# Altium schematic symbol library kmilo17pet-TI_LDO_0_350.SchLib: 1649 symbols (part 12 of 66)
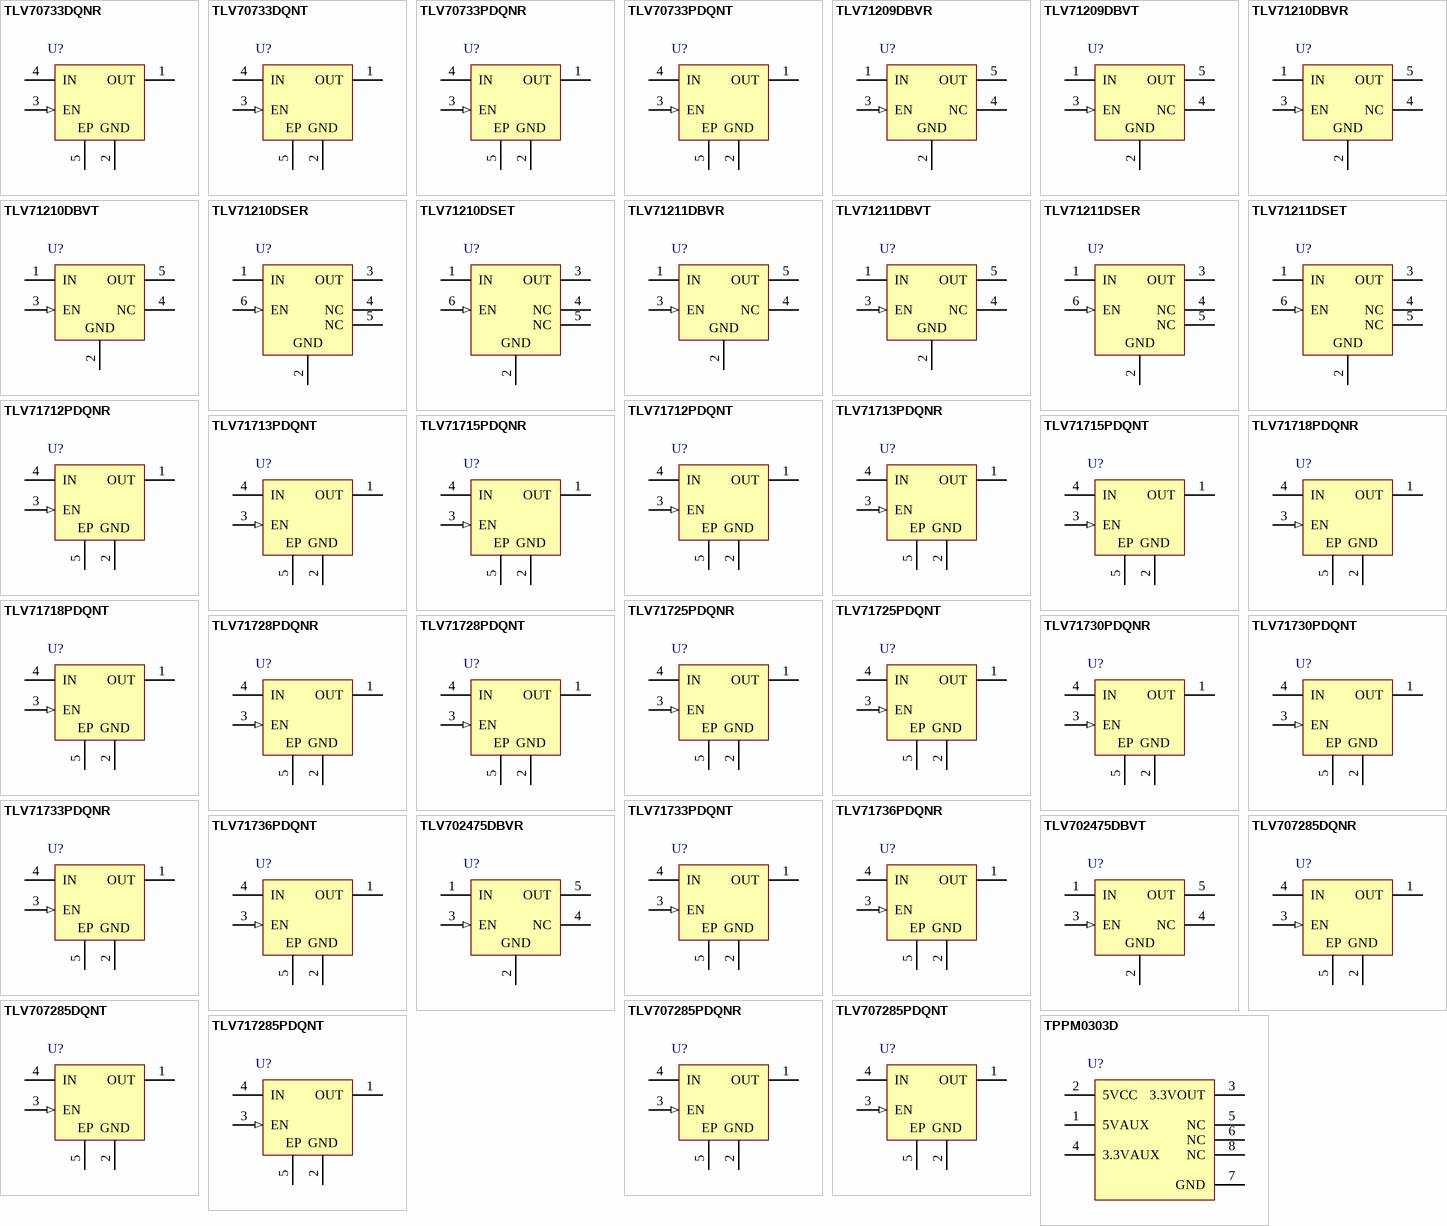
[diagram p53: symbols TLV70733DQNR to TPPM0303D]

## TLV71736PDQNR
designator U?
Single Output Low Noise LDO, 150 mA, Fixed 3.6 V Output, 1.7 to 5.5 V Input, 4-pin X2SON (DQN), -40 to 85 degC, Green (RoHS & no Sb/Br); Manufacturer: Texas Instruments; PartNumber: TLV71736PDQNR; Accuracy(%): 1.5; Fixed Output Options(V): 3.6; Iout(Max)(A): 0.15; Iq(Typ)(mA): 0.03; SubFamily: Single Channel LDO; Vdo(Typ)(mV): 360; Vin(Max)(V): 5.5; Vin(Min)(V): 1.7; DatasheetVersion: SBVS176A; PackageVersion: 4210367/D; PackageReference: DQN4-480X480TP; PackageDescription: 4-Pin Plastic Small Outline, Body 1 x 1 mm, Pitch 0.65 mm; Supplier 1: Digi-Key; Supplier Part Number 1: 296-30491-2-ND; Supplier 2: Digi-Key; Supplier Part Number 2: 296-30491-1-ND; Supplier 3: Digi-Key; Supplier Part Number 3: 296-30491-6-ND; Supplier 4: Newark; Supplier Part Number 4: 06W3546; Supplier 5: Mouser; Supplier Part Number 5: 595-TLV71736PDQNR; Eco-Plan: Green (RoHS & no Sb/Br); Vout Adj(Max)(V): 3.6; Vout Adj(Min)(V): 3.6; Mounting Technology: Surface Mount; ComponentLink1Description: Manufacturer URL; ComponentLink1URL: http://www.ti.com/; ComponentLink2Description: Datasheet; ComponentLink2URL: http://www.ti.com/general/docs/lit/getliterature.tsp?genericPartNumber=TLV71736P&fileType=pdf
footprint TI-DQN4-480X480TP_V (SON, 4-Leads, Body 1x1mm, Pitch 0.65mm, Thermal Pad 0.5x0.5mm)
pins: 1 OUT (power) "Regulated output voltage pin. A small 1-uF ceramic capacitor is recommended from this pin to ground to assure stability.", 2 GND (power) "Ground pin", 3 EN (in) "Enable pin. Driving EN over 1.2 V turns on the regulator. Driving EN below 0.4 V puts the regulator into shutdown mode.", 4 IN (power) "Input pin. A small capacitor is recommended from this pin to ground to assure stability.", 5 EP (power) "It is recommended to connect this pin to GND for improved thermal performance."

## TLV71736PDQNT
designator U?
Single Output Low Noise LDO, 150 mA, Fixed 3.6 V Output, 1.7 to 5.5 V Input, 4-pin X2SON (DQN), -40 to 85 degC, Green (RoHS & no Sb/Br); Manufacturer: Texas Instruments; PartNumber: TLV71736PDQNT; Accuracy(%): 1.5; Fixed Output Options(V): 3.6; Iout(Max)(A): 0.15; Iq(Typ)(mA): 0.03; SubFamily: Single Channel LDO; Vdo(Typ)(mV): 360; Vin(Max)(V): 5.5; Vin(Min)(V): 1.7; DatasheetVersion: SBVS176A; PackageVersion: 4210367/D; PackageReference: DQN4-480X480TP; PackageDescription: 4-Pin Plastic Small Outline, Body 1 x 1 mm, Pitch 0.65 mm; Supplier 1: Digi-Key; Supplier Part Number 1: TLV71736PDQNT-ND; Supplier 2: Farnell; Supplier Part Number 2: 2211359; Supplier 3: Newark; Supplier Part Number 3: 06W3547; Supplier 4: Newark; Supplier Part Number 4: 44W8609; Supplier 5: Mouser; Supplier Part Number 5: 595-TLV71736PDQNT; Eco-Plan: Green (RoHS & no Sb/Br); Vout Adj(Max)(V): 3.6; Vout Adj(Min)(V): 3.6; Mounting Technology: Surface Mount; ComponentLink1Description: Manufacturer URL; ComponentLink1URL: http://www.ti.com/; ComponentLink2Description: Datasheet; ComponentLink2URL: http://www.ti.com/general/docs/lit/getliterature.tsp?genericPartNumber=TLV71736P&fileType=pdf
footprint TI-DQN4-480X480TP_V (SON, 4-Leads, Body 1x1mm, Pitch 0.65mm, Thermal Pad 0.5x0.5mm)
pins: 1 OUT (power) "Regulated output voltage pin. A small 1-uF ceramic capacitor is recommended from this pin to ground to assure stability.", 2 GND (power) "Ground pin", 3 EN (in) "Enable pin. Driving EN over 1.2 V turns on the regulator. Driving EN below 0.4 V puts the regulator into shutdown mode.", 4 IN (power) "Input pin. A small capacitor is recommended from this pin to ground to assure stability.", 5 EP (power) "It is recommended to connect this pin to GND for improved thermal performance."

## TLV702475DBVR
designator U?
Single Output LDO, 300 mA, Fixed 4.75 V Output, 2 to 5.5 V Input, with Low IQ, 5-pin SOT-23 (DBV), -40 to 125 degC, Green (RoHS & no Sb/Br); Manufacturer: Texas Instruments; PartNumber: TLV702475DBVR; Accuracy(%): 2; Fixed Output Options(V): 4.75; Iout(Max)(A): 0.3; Iq(Typ)(mA): 0.03; SubFamily: Single Channel LDO; Vdo(Typ)(mV): 220; Vin(Max)(V): 5.5; DatasheetVersion: SLVSAG6B; PackageVersion: 4073253-4/K; PackageReference: DBV5; PackageDescription: 5-Pin Plastic Small Outline, Body 1.60 Ã— 2.90 mm, Pitch 0.95 mm; Supplier 1: Digi-Key; Supplier Part Number 1: TLV702475DBVR-ND; Supplier 2: Mouser; Supplier Part Number 2: 595-TLV702475DBVR; Eco-Plan: Green (RoHS & no Sb/Br); Vin(Min)(V): 2; Vout Adj(Max)(V): 4.75; Vout Adj(Min)(V): 4.75; Mounting Technology: Surface Mount; Code_JEDEC: MO-178; ComponentLink1Description: Manufacturer URL; ComponentLink1URL: http://www.ti.com/; ComponentLink2Description: Datasheet; ComponentLink2URL: http://www.ti.com/general/docs/lit/getliterature.tsp?genericPartNumber=TLV702475&fileType=pdf; ComponentLink3Description: Package Specification; ComponentLink3URL: http://www.ti.com/litv/pdf/mpds018i
footprint TI-DBV5_N (SOT23, 5-Leads, Body 2.9x1.6mm, Pitch 0.95mm, IPC Medium Density)
footprint TI-DBV5_L (SOT23, 5-Leads, Body 2.9x1.6mm, Pitch 0.95mm, IPC High Density)
footprint TI-DBV5_M (SOT23, 5-Leads, Body 2.9x1.6mm, Pitch 0.95mm, IPC Low Density)
pins: 1 IN (power) "Input supply voltage", 2 GND (power) "Ground", 3 EN (in) "Enable input", 4 NC "No connected", 5 OUT (power) "Regulated output voltage"

## TLV702475DBVT
designator U?
Single Output LDO, 300 mA, Fixed 4.75 V Output, 2 to 5.5 V Input, with Low IQ, 5-pin SOT-23 (DBV), -40 to 125 degC, Green (RoHS & no Sb/Br); Manufacturer: Texas Instruments; PartNumber: TLV702475DBVT; Accuracy(%): 2; Fixed Output Options(V): 4.75; Iout(Max)(A): 0.3; Iq(Typ)(mA): 0.03; SubFamily: Single Channel LDO; Vdo(Typ)(mV): 220; Vin(Max)(V): 5.5; DatasheetVersion: SLVSAG6B; PackageVersion: 4073253-4/K; PackageReference: DBV5; PackageDescription: 5-Pin Plastic Small Outline, Body 1.60 Ã— 2.90 mm, Pitch 0.95 mm; Supplier 1: Digi-Key; Supplier Part Number 1: 296-28110-2-ND; Supplier 2: Digi-Key; Supplier Part Number 2: 296-28110-1-ND; Supplier 3: Digi-Key; Supplier Part Number 3: 296-28110-6-ND; Supplier 4: Newark; Supplier Part Number 4: 24T4771; Supplier 5: Mouser; Supplier Part Number 5: 595-TLV702475DBVT; Eco-Plan: Green (RoHS & no Sb/Br); Vin(Min)(V): 2; Vout Adj(Max)(V): 4.75; Vout Adj(Min)(V): 4.75; Mounting Technology: Surface Mount; Code_JEDEC: MO-178; ComponentLink1Description: Manufacturer URL; ComponentLink1URL: http://www.ti.com/; ComponentLink2Description: Datasheet; ComponentLink2URL: http://www.ti.com/general/docs/lit/getliterature.tsp?genericPartNumber=TLV702475&fileType=pdf; ComponentLink3Description: Package Specification; ComponentLink3URL: http://www.ti.com/litv/pdf/mpds018i
footprint TI-DBV5_N (SOT23, 5-Leads, Body 2.9x1.6mm, Pitch 0.95mm, IPC Medium Density)
footprint TI-DBV5_L (SOT23, 5-Leads, Body 2.9x1.6mm, Pitch 0.95mm, IPC High Density)
footprint TI-DBV5_M (SOT23, 5-Leads, Body 2.9x1.6mm, Pitch 0.95mm, IPC Low Density)
pins: 1 IN (power) "Input supply voltage", 2 GND (power) "Ground", 3 EN (in) "Enable input", 4 NC "No connected", 5 OUT (power) "Regulated output voltage"

## TLV707285DQNR
designator U?
Single Output Low Noise LDO, 200 mA, Fixed 2.85 V Output, 2 to 5.5 V Input, 4-pin X2SON(DQN), -40 to 85 degC, Green (RoHS & no Sb/Br); Manufacturer: Texas Instruments; PartNumber: TLV707285DQNR; Accuracy(%): 1.5; Fixed Output Options(V): 2.85; Iout(Max)(A): 0.2; Iq(Typ)(mA): 0.02; SubFamily: Single Channel LDO; Vdo(Typ)(mV): 250; Vin(Max)(V): 5.5; Vin(Min)(V): 2; DatasheetVersion: SBVS153C; PackageVersion: 4210367/D; PackageReference: DQN4-480X480TP; PackageDescription: 4-Pin Plastic Small Outline, Body 1 x 1 mm, Pitch 0.65 mm; Supplier 1: Digi-Key; Supplier Part Number 1: TLV707285DQNR-ND; Supplier 2: Mouser; Supplier Part Number 2: 595-TLV707285DQNR; Eco-Plan: Green (RoHS & no Sb/Br); Vout Adj(Max)(V): 2.85; Vout Adj(Min)(V): 2.85; Mounting Technology: Surface Mount; ComponentLink1Description: Manufacturer URL; ComponentLink1URL: http://www.ti.com/; ComponentLink2Description: Datasheet; ComponentLink2URL: http://www.ti.com/general/docs/lit/getliterature.tsp?genericPartNumber=TLV707285&fileType=pdf
footprint TI-DQN4-480X480TP_V (SON, 4-Leads, Body 1x1mm, Pitch 0.65mm, Thermal Pad 0.5x0.5mm)
pins: 1 OUT (power) "Regulated output voltage pin. A small 1 uF ceramic capacitor is needed from this pin to ground to assure stability.", 2 GND (power) "Ground pin", 3 EN (in) "Enable pin. Driving EN over 0.9 V turns on the regulator. Driving EN below 0.4 V puts the regulator into shutdown mode For TLV707xxP, output voltage is discharged through an internal 120-ohm resistor when device is shut down.", 4 IN (power) "Input pin. A small 1uF ceramic capacitor is recommended from this pin to ground for good transient performance.", 5 EP "Exposed thermal pad"

## TLV707285DQNT
designator U?
Single Output Low Noise LDO, 200 mA, Fixed 2.85 V Output, 2 to 5.5 V Input, 4-pin X2SON(DQN), -40 to 85 degC, Green (RoHS & no Sb/Br); Manufacturer: Texas Instruments; PartNumber: TLV707285DQNT; Accuracy(%): 1.5; Fixed Output Options(V): 2.85; Iout(Max)(A): 0.2; Iq(Typ)(mA): 0.02; SubFamily: Single Channel LDO; Vdo(Typ)(mV): 250; Vin(Max)(V): 5.5; Vin(Min)(V): 2; DatasheetVersion: SBVS153C; PackageVersion: 4210367/D; PackageReference: DQN4-480X480TP; PackageDescription: 4-Pin Plastic Small Outline, Body 1 x 1 mm, Pitch 0.65 mm; Supplier 1: Digi-Key; Supplier Part Number 1: 296-28352-2-ND; Supplier 2: Digi-Key; Supplier Part Number 2: 296-28352-1-ND; Supplier 3: Digi-Key; Supplier Part Number 3: 296-28352-6-ND; Supplier 4: Mouser; Supplier Part Number 4: 595-TLV707285DQNT; Eco-Plan: Green (RoHS & no Sb/Br); Vout Adj(Max)(V): 2.85; Vout Adj(Min)(V): 2.85; Mounting Technology: Surface Mount; ComponentLink1Description: Manufacturer URL; ComponentLink1URL: http://www.ti.com/; ComponentLink2Description: Datasheet; ComponentLink2URL: http://www.ti.com/general/docs/lit/getliterature.tsp?genericPartNumber=TLV707285&fileType=pdf
footprint TI-DQN4-480X480TP_V (SON, 4-Leads, Body 1x1mm, Pitch 0.65mm, Thermal Pad 0.5x0.5mm)
pins: 1 OUT (power) "Regulated output voltage pin. A small 1 uF ceramic capacitor is needed from this pin to ground to assure stability.", 2 GND (power) "Ground pin", 3 EN (in) "Enable pin. Driving EN over 0.9 V turns on the regulator. Driving EN below 0.4 V puts the regulator into shutdown mode For TLV707xxP, output voltage is discharged through an internal 120-ohm resistor when device is shut down.", 4 IN (power) "Input pin. A small 1uF ceramic capacitor is recommended from this pin to ground for good transient performance.", 5 EP "Exposed thermal pad"

## TLV707285PDQNR
designator U?
Single Output Low Noise LDO, 200 mA, Fixed 2.85 V Output, 2 to 5.5 V Input, 4-pin X2SON(DQN), -40 to 85 degC, Green (RoHS & no Sb/Br); Manufacturer: Texas Instruments; PartNumber: TLV707285PDQNR; Accuracy(%): 1.5; Fixed Output Options(V): 2.85; Iout(Max)(A): 0.2; Iq(Typ)(mA): 0.02; SubFamily: Single Channel LDO; Vdo(Typ)(mV): 250; Vin(Max)(V): 5.5; Vin(Min)(V): 2; DatasheetVersion: SBVS153C; PackageVersion: 4210367/D; PackageReference: DQN4-480X480TP; PackageDescription: 4-Pin Plastic Small Outline, Body 1 x 1 mm, Pitch 0.65 mm; Supplier 1: Digi-Key; Supplier Part Number 1: 296-30290-2-ND; Supplier 2: Digi-Key; Supplier Part Number 2: 296-30290-1-ND; Supplier 3: Digi-Key; Supplier Part Number 3: 296-30290-6-ND; Supplier 4: Mouser; Supplier Part Number 4: 595-TLV707285PDQNR; Eco-Plan: Green (RoHS & no Sb/Br); Vout Adj(Max)(V): 2.85; Vout Adj(Min)(V): 2.85; Mounting Technology: Surface Mount; ComponentLink1Description: Manufacturer URL; ComponentLink1URL: http://www.ti.com/; ComponentLink2Description: Datasheet; ComponentLink2URL: http://www.ti.com/general/docs/lit/getliterature.tsp?genericPartNumber=TLV707285P&fileType=pdf
footprint TI-DQN4-480X480TP_V (SON, 4-Leads, Body 1x1mm, Pitch 0.65mm, Thermal Pad 0.5x0.5mm)
pins: 1 OUT (power) "Regulated output voltage pin. A small 1 uF ceramic capacitor is needed from this pin to ground to assure stability.", 2 GND (power) "Ground pin", 3 EN (in) "Enable pin. Driving EN over 0.9 V turns on the regulator. Driving EN below 0.4 V puts the regulator into shutdown mode For TLV707xxP, output voltage is discharged through an internal 120-ohm resistor when device is shut down.", 4 IN (power) "Input pin. A small 1uF ceramic capacitor is recommended from this pin to ground for good transient performance.", 5 EP "Exposed thermal pad"

## TLV707285PDQNT
designator U?
Single Output Low Noise LDO, 200 mA, Fixed 2.85 V Output, 2 to 5.5 V Input, 4-pin X2SON(DQN), -40 to 85 degC, Green (RoHS & no Sb/Br); Manufacturer: Texas Instruments; PartNumber: TLV707285PDQNT; Accuracy(%): 1.5; Fixed Output Options(V): 2.85; Iout(Max)(A): 0.2; Iq(Typ)(mA): 0.02; SubFamily: Single Channel LDO; Vdo(Typ)(mV): 250; Vin(Max)(V): 5.5; Vin(Min)(V): 2; DatasheetVersion: SBVS153C; PackageVersion: 4210367/D; PackageReference: DQN4-480X480TP; PackageDescription: 4-Pin Plastic Small Outline, Body 1 x 1 mm, Pitch 0.65 mm; Supplier 1: Digi-Key; Supplier Part Number 1: TLV707285PDQNT-ND; Supplier 2: Mouser; Supplier Part Number 2: 595-TLV707285PDQNT; Eco-Plan: Green (RoHS & no Sb/Br); Vout Adj(Max)(V): 2.85; Vout Adj(Min)(V): 2.85; Mounting Technology: Surface Mount; ComponentLink1Description: Manufacturer URL; ComponentLink1URL: http://www.ti.com/; ComponentLink2Description: Datasheet; ComponentLink2URL: http://www.ti.com/general/docs/lit/getliterature.tsp?genericPartNumber=TLV707285P&fileType=pdf
footprint TI-DQN4-480X480TP_V (SON, 4-Leads, Body 1x1mm, Pitch 0.65mm, Thermal Pad 0.5x0.5mm)
pins: 1 OUT (power) "Regulated output voltage pin. A small 1 uF ceramic capacitor is needed from this pin to ground to assure stability.", 2 GND (power) "Ground pin", 3 EN (in) "Enable pin. Driving EN over 0.9 V turns on the regulator. Driving EN below 0.4 V puts the regulator into shutdown mode For TLV707xxP, output voltage is discharged through an internal 120-ohm resistor when device is shut down.", 4 IN (power) "Input pin. A small 1uF ceramic capacitor is recommended from this pin to ground for good transient performance.", 5 EP "Exposed thermal pad"

## TLV717285PDQNT
designator U?
Single Output Low Noise LDO, 150 mA, Fixed 2.85 V Output, 1.7 to 5.5 V Input, 4-pin X2SON (DQN), -40 to 85 degC, Green (RoHS & no Sb/Br); Manufacturer: Texas Instruments; PartNumber: TLV717285PDQNT; Accuracy(%): 1.5; Fixed Output Options(V): 2.85; Iout(Max)(A): 0.15; Iq(Typ)(mA): 0.03; SubFamily: Single Channel LDO; Vdo(Typ)(mV): 360; Vin(Max)(V): 5.5; Vin(Min)(V): 1.7; DatasheetVersion: SBVS176A; PackageVersion: 4210367/D; PackageReference: DQN4-480X480TP; PackageDescription: 4-Pin Plastic Small Outline, Body 1 x 1 mm, Pitch 0.65 mm; Supplier 1: Digi-Key; Supplier Part Number 1: TLV717285PDQNT-ND; Supplier 2: Farnell; Supplier Part Number 2: 2211357; Supplier 3: Newark; Supplier Part Number 3: 06W3543; Supplier 4: Newark; Supplier Part Number 4: 44W8607; Supplier 5: Mouser; Supplier Part Number 5: 595-TLV717285PDQNT; Eco-Plan: Green (RoHS & no Sb/Br); Vout Adj(Max)(V): 2.85; Vout Adj(Min)(V): 2.85; Mounting Technology: Surface Mount; ComponentLink1Description: Manufacturer URL; ComponentLink1URL: http://www.ti.com/; ComponentLink2Description: Datasheet; ComponentLink2URL: http://www.ti.com/general/docs/lit/getliterature.tsp?genericPartNumber=TLV717285P&fileType=pdf
footprint TI-DQN4-480X480TP_V (SON, 4-Leads, Body 1x1mm, Pitch 0.65mm, Thermal Pad 0.5x0.5mm)
pins: 1 OUT (power) "Regulated output voltage pin. A small 1-uF ceramic capacitor is recommended from this pin to ground to assure stability.", 2 GND (power) "Ground pin", 3 EN (in) "Enable pin. Driving EN over 1.2 V turns on the regulator. Driving EN below 0.4 V puts the regulator into shutdown mode.", 4 IN (power) "Input pin. A small capacitor is recommended from this pin to ground to assure stability.", 5 EP (power) "It is recommended to connect this pin to GND for improved thermal performance."

## TPPM0303D
designator U?
Single Output LDO, 250 mA, Fixed 3.3 V Output, 4.5 to 5.5 V Input, with Reverse Current Blocking, 8-pin SOIC (D), 0 to 70 degC, Green (RoHS & no Sb/Br); Manufacturer: Texas Instruments; PartNumber: TPPM0303D; Fixed Output Options(V): 3.3; Iout(Max)(A): 0.25; Iq(Typ)(mA): 2.5; Rating: Catalog; SubFamily: Single Channel LDO; Vdo(Typ)(mV): 0.1; Vin(Max)(V): 5.5; Vin(Min)(V): 4.5; DatasheetVersion: SLVS364; PackageVersion: 4040047-3/M; PackageReference: D8; PackageDescription: 8-Pin Plastic Small Outline, Body 4.9 x 3.9 mm, Pitch 1.27 mm; Supplier 1: Digi-Key; Supplier Part Number 1: 296-34580-5-ND; Supplier 2: Mouser; Supplier Part Number 2: 595-TPPM0303D; Eco-Plan: Green (RoHS & no Sb/Br); Mounting Technology: Surface Mount; Code_JEDEC: MS-012; ComponentLink1Description: Manufacturer URL; ComponentLink1URL: http://www.ti.com/; ComponentLink2Description: Datasheet; ComponentLink2URL: http://www.ti.com/general/docs/lit/getliterature.tsp?genericPartNumber=TPPM0303&fileType=pdf; ComponentLink3Description: Package Specification; ComponentLink3URL: http://www.ti.com/litv/pdf/msoi002j
footprint TI-D8_N (SOIC, 8-Leads, Body 4.9x3.9mm, Pitch 1.27mm, IPC Medium Density)
footprint TI-D8_L (SOIC, 8-Leads, Body 4.9x3.9mm, Pitch 1.27mm, IPC High Density)
footprint TI-D8_M (SOIC, 8-Leads, Body 4.9x3.9mm, Pitch 1.27mm, IPC Low Density)
pins: 1 5VAUX (power) "5-V auxiliary input", 2 5VCC (power) "5-V main input", 3 3.3VOUT (power) "3-V output with a typical capacitance load of 4.7 uF", 4 3.3VAUX (power) "3.3-V auxiliary input", 5 NC "No internal connection", 6 NC "No internal connection", 7 GND (power) "Ground", 8 NC "No internal connection"

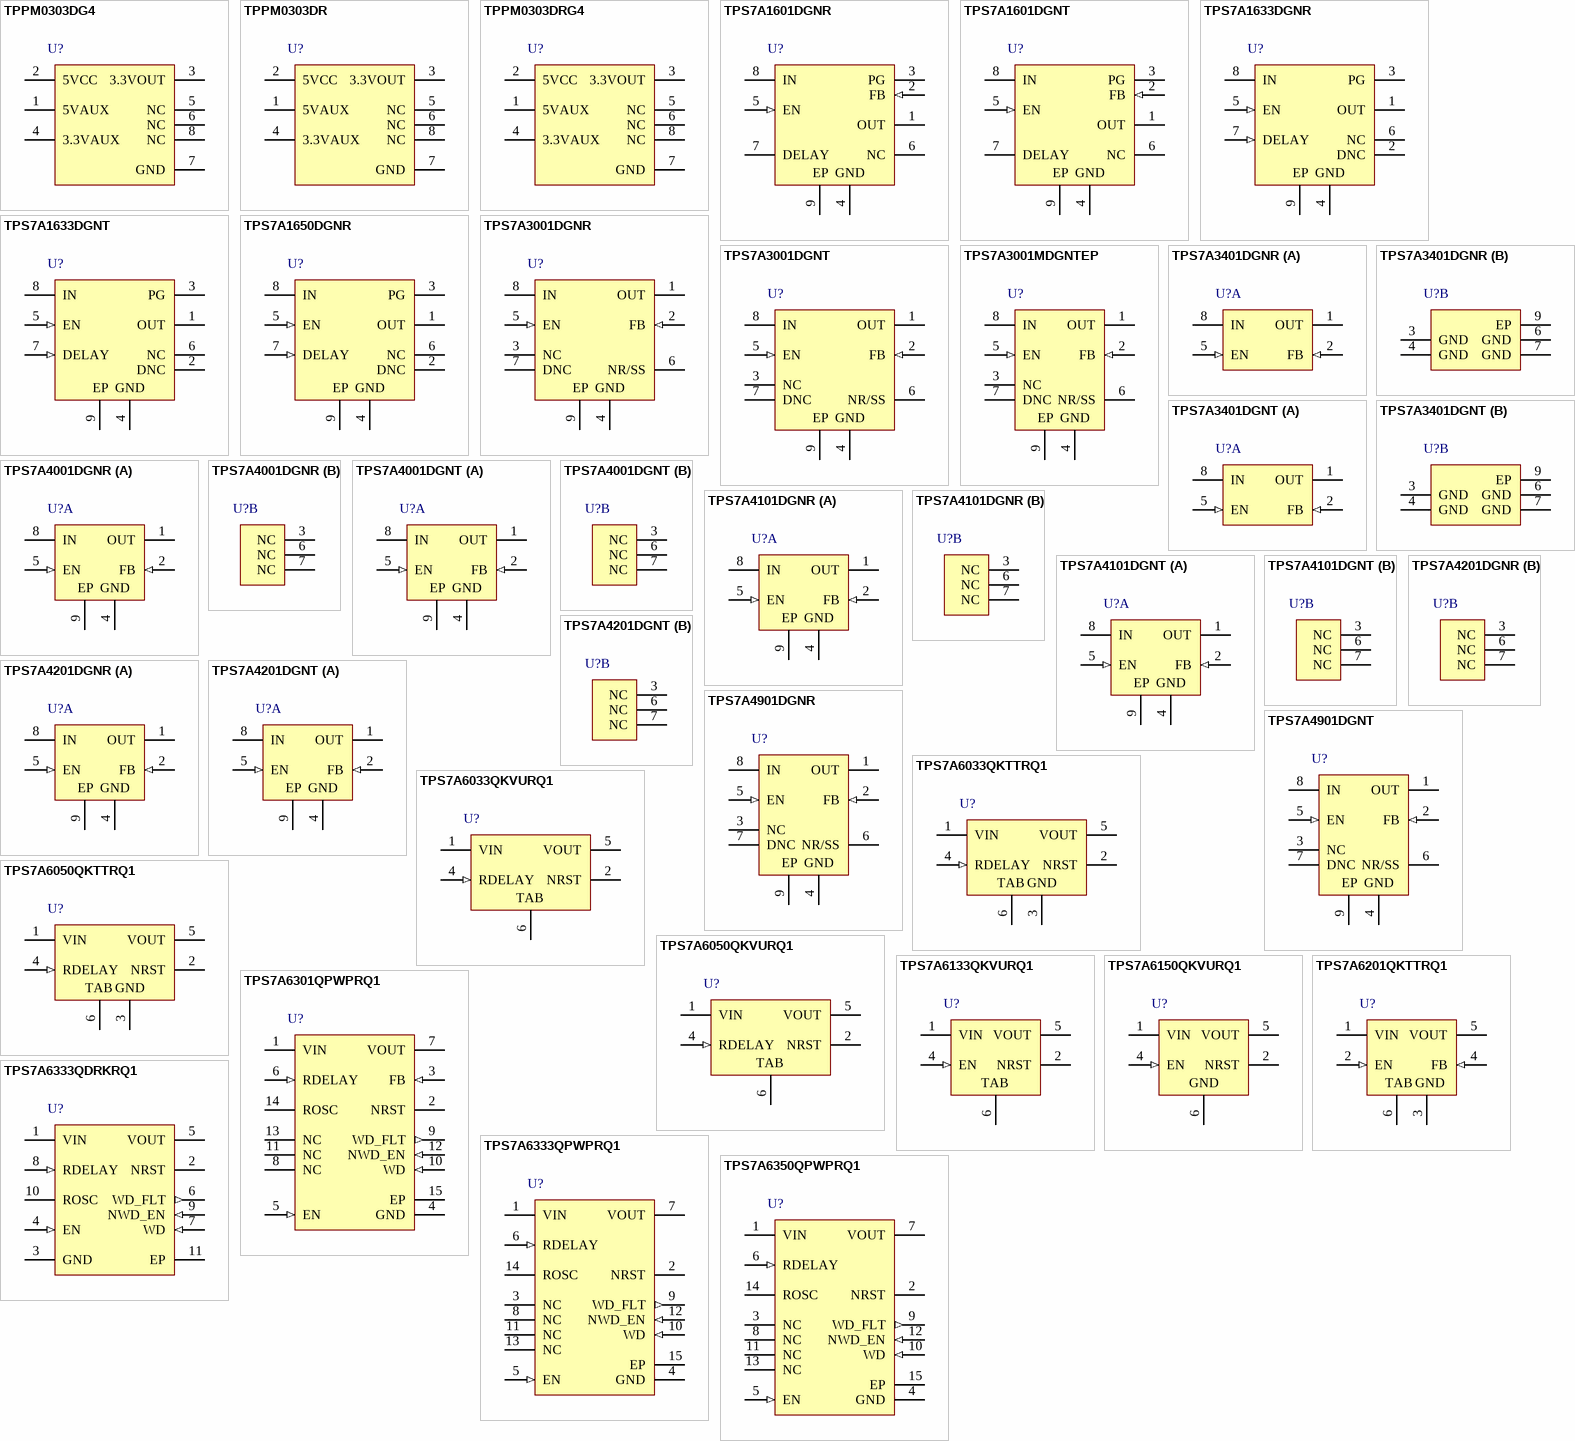
[diagram p8: symbols TPPM0303DG4 to TPS7A6350QPWPRQ1]

## TPPM0303DG4
designator U?
Single Output LDO, 250 mA, Fixed 3.3 V Output, 4.5 to 5.5 V Input, with Reverse Current Blocking, 8-pin SOIC (D), 0 to 70 degC, Green (RoHS & no Sb/Br); Manufacturer: Texas Instruments; PartNumber: TPPM0303DG4; Fixed Output Options(V): 3.3; Iout(Max)(A): 0.25; Iq(Typ)(mA): 2.5; Rating: Catalog; SubFamily: Single Channel LDO; Vdo(Typ)(mV): 0.1; Vin(Max)(V): 5.5; Vin(Min)(V): 4.5; DatasheetVersion: SLVS364; PackageVersion: 4040047-3/M; PackageReference: D8; PackageDescription: 8-Pin Plastic Small Outline, Body 4.9 x 3.9 mm, Pitch 1.27 mm; Supplier 1: Digi-Key; Supplier Part Number 1: TPPM0303DG4-ND; Supplier 2: Mouser; Supplier Part Number 2: 595-TPPM0303DG4; Eco-Plan: Green (RoHS & no Sb/Br); Mounting Technology: Surface Mount; Code_JEDEC: MS-012; ComponentLink1Description: Manufacturer URL; ComponentLink1URL: http://www.ti.com/; ComponentLink2Description: Datasheet; ComponentLink2URL: http://www.ti.com/general/docs/lit/getliterature.tsp?genericPartNumber=TPPM0303&fileType=pdf; ComponentLink3Description: Package Specification; ComponentLink3URL: http://www.ti.com/litv/pdf/msoi002j
footprint TI-D8_N (SOIC, 8-Leads, Body 4.9x3.9mm, Pitch 1.27mm, IPC Medium Density)
footprint TI-D8_L (SOIC, 8-Leads, Body 4.9x3.9mm, Pitch 1.27mm, IPC High Density)
footprint TI-D8_M (SOIC, 8-Leads, Body 4.9x3.9mm, Pitch 1.27mm, IPC Low Density)
pins: 1 5VAUX (power) "5-V auxiliary input", 2 5VCC (power) "5-V main input", 3 3.3VOUT (power) "3-V output with a typical capacitance load of 4.7 uF", 4 3.3VAUX (power) "3.3-V auxiliary input", 5 NC "No internal connection", 6 NC "No internal connection", 7 GND (power) "Ground", 8 NC "No internal connection"

## TPPM0303DR
designator U?
Single Output LDO, 250 mA, Fixed 3.3 V Output, 4.5 to 5.5 V Input, with Reverse Current Blocking, 8-pin SOIC (D), 0 to 70 degC, Green (RoHS & no Sb/Br); Manufacturer: Texas Instruments; PartNumber: TPPM0303DR; Fixed Output Options(V): 3.3; Iout(Max)(A): 0.25; Iq(Typ)(mA): 2.5; Rating: Catalog; SubFamily: Single Channel LDO; Vdo(Typ)(mV): 0.1; Vin(Max)(V): 5.5; Vin(Min)(V): 4.5; DatasheetVersion: SLVS364; PackageVersion: 4040047-3/M; PackageReference: D8; PackageDescription: 8-Pin Plastic Small Outline, Body 4.9 x 3.9 mm, Pitch 1.27 mm; Supplier 1: Digi-Key; Supplier Part Number 1: 296-10875-2-ND; Supplier 2: Digi-Key; Supplier Part Number 2: 296-10875-1-ND; Supplier 3: Digi-Key; Supplier Part Number 3: 296-10875-6-ND; Supplier 4: Newark; Supplier Part Number 4: 76C9930; Supplier 5: Mouser; Supplier Part Number 5: 595-TPPM0303DR; Eco-Plan: Green (RoHS & no Sb/Br); Mounting Technology: Surface Mount; Code_JEDEC: MS-012; ComponentLink1Description: Manufacturer URL; ComponentLink1URL: http://www.ti.com/; ComponentLink2Description: Datasheet; ComponentLink2URL: http://www.ti.com/general/docs/lit/getliterature.tsp?genericPartNumber=TPPM0303&fileType=pdf; ComponentLink3Description: Package Specification; ComponentLink3URL: http://www.ti.com/litv/pdf/msoi002j
footprint TI-D8_N (SOIC, 8-Leads, Body 4.9x3.9mm, Pitch 1.27mm, IPC Medium Density)
footprint TI-D8_L (SOIC, 8-Leads, Body 4.9x3.9mm, Pitch 1.27mm, IPC High Density)
footprint TI-D8_M (SOIC, 8-Leads, Body 4.9x3.9mm, Pitch 1.27mm, IPC Low Density)
pins: 1 5VAUX (power) "5-V auxiliary input", 2 5VCC (power) "5-V main input", 3 3.3VOUT (power) "3-V output with a typical capacitance load of 4.7 uF", 4 3.3VAUX (power) "3.3-V auxiliary input", 5 NC "No internal connection", 6 NC "No internal connection", 7 GND (power) "Ground", 8 NC "No internal connection"

## TPPM0303DRG4
designator U?
Single Output LDO, 250 mA, Fixed 3.3 V Output, 4.5 to 5.5 V Input, with Reverse Current Blocking, 8-pin SOIC (D), 0 to 70 degC, Green (RoHS & no Sb/Br); Manufacturer: Texas Instruments; PartNumber: TPPM0303DRG4; Fixed Output Options(V): 3.3; Iout(Max)(A): 0.25; Iq(Typ)(mA): 2.5; Rating: Catalog; SubFamily: Single Channel LDO; Vdo(Typ)(mV): 0.1; Vin(Max)(V): 5.5; Vin(Min)(V): 4.5; DatasheetVersion: SLVS364; PackageVersion: 4040047-3/M; PackageReference: D8; PackageDescription: 8-Pin Plastic Small Outline, Body 4.9 x 3.9 mm, Pitch 1.27 mm; Supplier 1: Digi-Key; Supplier Part Number 1: TPPM0303DRG4-ND; Supplier 2: Mouser; Supplier Part Number 2: 595-TPPM0303DRG4; Eco-Plan: Green (RoHS & no Sb/Br); Mounting Technology: Surface Mount; Code_JEDEC: MS-012; ComponentLink1Description: Manufacturer URL; ComponentLink1URL: http://www.ti.com/; ComponentLink2Description: Datasheet; ComponentLink2URL: http://www.ti.com/general/docs/lit/getliterature.tsp?genericPartNumber=TPPM0303&fileType=pdf; ComponentLink3Description: Package Specification; ComponentLink3URL: http://www.ti.com/litv/pdf/msoi002j
footprint TI-D8_N (SOIC, 8-Leads, Body 4.9x3.9mm, Pitch 1.27mm, IPC Medium Density)
footprint TI-D8_L (SOIC, 8-Leads, Body 4.9x3.9mm, Pitch 1.27mm, IPC High Density)
footprint TI-D8_M (SOIC, 8-Leads, Body 4.9x3.9mm, Pitch 1.27mm, IPC Low Density)
pins: 1 5VAUX (power) "5-V auxiliary input", 2 5VCC (power) "5-V main input", 3 3.3VOUT (power) "3-V output with a typical capacitance load of 4.7 uF", 4 3.3VAUX (power) "3.3-V auxiliary input", 5 NC "No internal connection", 6 NC "No internal connection", 7 GND (power) "Ground", 8 NC "No internal connection"

## TPS7A1601DGNR
designator U?
Single Output LDO, 100 mA, Adjustable 1.2 to 18.5 V Output, 3 to 60 V Input, with Enable and Power Good, 8-pin MSOP (DGN), -40 to 125 degC, Green (RoHS & no Sb/Br); Manufacturer: Texas Instruments; PartNumber: TPS7A1601DGNR; Accuracy(%): 2; Iout(Max)(A): 0.1; Iq(Typ)(mA): 0.004; Power Good: TRUE; Rating: Catalog; SubFamily: Single Channel LDO; Vdo(Typ)(mV): 60; Vin(Min)(V): 3; Vout Adj(Max)(V): 18.5; Vout Adj(Min)(V): 1.2; DatasheetVersion: SBVS171A; PackageVersion: 4073271/F; PackageReference: DGN8-1790X1470TP; PackageDescription: 8-pin Plastic Small Outline, Body 3 x 3 mm, Pitch 0.65 mm; Supplier 1: Digi-Key; Supplier Part Number 1: 296-30203-2-ND; Supplier 2: Digi-Key; Supplier Part Number 2: 296-30203-1-ND; Supplier 3: Digi-Key; Supplier Part Number 3: 296-30203-6-ND; Supplier 4: Farnell; Supplier Part Number 4: 2082438; Supplier 5: Newark; Supplier Part Number 5: 86T4770; Supplier 6: Newark; Supplier Part Number 6: 82T4252; Supplier 7: Mouser; Supplier Part Number 7: 595-TPS7A1601DGNR; Eco-Plan: Green (RoHS & no Sb/Br); Vin(Max)(V): 60; Mounting Technology: Surface Mount; Code_JEDEC: MO-187; ComponentLink1Description: Manufacturer URL; ComponentLink1URL: http://www.ti.com/; ComponentLink2Description: Datasheet; ComponentLink2URL: http://www.ti.com/general/docs/lit/getliterature.tsp?genericPartNumber=TPS7A1601&fileType=pdf; ComponentLink3Description: Package Specification; ComponentLink3URL: http://www.ti.com/litv/pdf/mpds046e; ComponentLink4Description: URL Link1; ComponentLink4URL: Samples URL:http://www.ti.com/product/tps7a1601#samples
footprint TI-DGN8-1790X1470TP_N (SOIC, 8-Leads, Body 3x3mm, Pitch 0.65mm, Thermal Pad 1.79X1.47mm, IPC Medium Density)
footprint TI-DGN8-1790X1470TP_L (SOIC, 8-Leads, Body 3x3mm, Pitch 0.65mm, Thermal Pad 1.79X1.47mm, IPC High Density)
footprint TI-DGN8-1790X1470TP_M (SOIC, 8-Leads, Body 3x3mm, Pitch 0.65mm, Thermal Pad 1.79X1.47mm, IPC Low Density)
pins: 1 OUT (power) "Regulator output pin. A capacitor > 2.2 uF must be tied from this pin to ground to assure stability. It is recommended  to connect a 10 uF ceramic capacitor from OUT to GND (as close to the device as possible) to maximize AC (See Datasheet)", 2 FB (in) "For the adjustable version (TPS7A1601), the feedback pin is the input to the control-loop error amplifier. This pin is  used to set the output voltage of the device when the regulator output voltage is set by external (See Datasheet)", 3 PG (hiz) "Power-good pin. Open collector output; leave open or connect to GND if the power-good function is not needed.", 4 GND (power) "Ground pin.", 5 EN (in) "Enable pin. This pin turns the regulator on or off. If VEN >= VEN_HI, the regulator is enabled. If VEN=< VEN_LO, the regulator is disabled. If not used, the EN pin can be connected to IN. Make sure that VEN =< VIN at all (See Datasheet)", 6 NC "This pin can be left open or tied to any voltage between GND and IN.", 7 DELAY "Delay pin. Connect a capacitor to GND to adjust the PG delay time; leave open if the reset function is not needed.", 8 IN (power) "Regulator input supply pin. A capacitor > 0.1 uF must be tied from this pin to ground to assure stability. It is recommended to connect a 10 uF ceramic capacitor from IN to GND (as close to the device as possible) to reduce (See Datasheet)", 9 EP (power) "Solder to printed circuit board (PCB) to enhance thermal performance. Although it can be left floating, it is highly recommended to connect the PowerPAD to the GND plane."

## TPS7A1601DGNT
designator U?
Single Output LDO, 100 mA, Adjustable 1.2 to 18.5 V Output, 3 to 60 V Input, with Enable and Power Good, 8-pin MSOP (DGN), -40 to 125 degC, Green (RoHS & no Sb/Br); Manufacturer: Texas Instruments; PartNumber: TPS7A1601DGNT; Accuracy(%): 2; Iout(Max)(A): 0.1; Iq(Typ)(mA): 0.004; Power Good: TRUE; Rating: Catalog; SubFamily: Single Channel LDO; Vdo(Typ)(mV): 60; Vin(Min)(V): 3; Vout Adj(Max)(V): 18.5; Vout Adj(Min)(V): 1.2; DatasheetVersion: SBVS171A; PackageVersion: 4073271/F; PackageReference: DGN8-1790X1470TP; PackageDescription: 8-pin Plastic Small Outline, Body 3 x 3 mm, Pitch 0.65 mm; Supplier 1: Digi-Key; Supplier Part Number 1: 296-30258-2-ND; Supplier 2: Digi-Key; Supplier Part Number 2: 296-30258-1-ND; Supplier 3: Digi-Key; Supplier Part Number 3: 296-30258-6-ND; Supplier 4: Farnell; Supplier Part Number 4: 2095838; Supplier 5: Newark; Supplier Part Number 5: 83T1600; Supplier 6: Mouser; Supplier Part Number 6: 595-TPS7A1601DGNT; Eco-Plan: Green (RoHS & no Sb/Br); Vin(Max)(V): 60; Mounting Technology: Surface Mount; Code_JEDEC: MO-187; ComponentLink1Description: Manufacturer URL; ComponentLink1URL: http://www.ti.com/; ComponentLink2Description: Datasheet; ComponentLink2URL: http://www.ti.com/general/docs/lit/getliterature.tsp?genericPartNumber=TPS7A1601&fileType=pdf; ComponentLink3Description: Package Specification; ComponentLink3URL: http://www.ti.com/litv/pdf/mpds046e; ComponentLink4Description: URL Link1; ComponentLink4URL: Samples URL:http://www.ti.com/product/tps7a1601#samples
footprint TI-DGN8-1790X1470TP_N (SOIC, 8-Leads, Body 3x3mm, Pitch 0.65mm, Thermal Pad 1.79X1.47mm, IPC Medium Density)
footprint TI-DGN8-1790X1470TP_L (SOIC, 8-Leads, Body 3x3mm, Pitch 0.65mm, Thermal Pad 1.79X1.47mm, IPC High Density)
footprint TI-DGN8-1790X1470TP_M (SOIC, 8-Leads, Body 3x3mm, Pitch 0.65mm, Thermal Pad 1.79X1.47mm, IPC Low Density)
pins: 1 OUT (power) "Regulator output pin. A capacitor > 2.2 uF must be tied from this pin to ground to assure stability. It is recommended  to connect a 10 uF ceramic capacitor from OUT to GND (as close to the device as possible) to maximize AC (See Datasheet)", 2 FB (in) "For the adjustable version (TPS7A1601), the feedback pin is the input to the control-loop error amplifier. This pin is  used to set the output voltage of the device when the regulator output voltage is set by external (See Datasheet)", 3 PG (hiz) "Power-good pin. Open collector output; leave open or connect to GND if the power-good function is not needed.", 4 GND (power) "Ground pin.", 5 EN (in) "Enable pin. This pin turns the regulator on or off. If VEN >= VEN_HI, the regulator is enabled. If VEN=< VEN_LO, the regulator is disabled. If not used, the EN pin can be connected to IN. Make sure that VEN =< VIN at all (See Datasheet)", 6 NC "This pin can be left open or tied to any voltage between GND and IN.", 7 DELAY "Delay pin. Connect a capacitor to GND to adjust the PG delay time; leave open if the reset function is not needed.", 8 IN (power) "Regulator input supply pin. A capacitor > 0.1 uF must be tied from this pin to ground to assure stability. It is recommended to connect a 10 uF ceramic capacitor from IN to GND (as close to the device as possible) to reduce (See Datasheet)", 9 EP (power) "Solder to printed circuit board (PCB) to enhance thermal performance. Although it can be left floating, it is highly recommended to connect the PowerPAD to the GND plane."

## TPS7A1633DGNR
designator U?
Single Output LDO, 100 mA, Fixed 3.3 V Output, 3 to 60 V Input, with Enable and Power Good, 8-pin MSOP (DGN), -40 to 125 degC, Green (RoHS & no Sb/Br); Manufacturer: Texas Instruments; PartNumber: TPS7A1633DGNR; Accuracy(%): 2; Fixed Output Options(V): 3.3; Iout(Max)(A): 0.1; Iq(Typ)(mA): 0.004; Power Good: TRUE; Rating: Catalog; SubFamily: Single Channel LDO; Vdo(Typ)(mV): 60; Vin(Min)(V): 3; DatasheetVersion: SBVS171A; PackageVersion: 4073271/F; PackageReference: DGN8-1790X1470TP; PackageDescription: 8-pin Plastic Small Outline, Body 3 x 3 mm, Pitch 0.65 mm; Supplier 1: Digi-Key; Supplier Part Number 1: 296-30223-2-ND; Supplier 2: Digi-Key; Supplier Part Number 2: 296-30223-1-ND; Supplier 3: Digi-Key; Supplier Part Number 3: 296-30223-6-ND; Supplier 4: Newark; Supplier Part Number 4: 82T4254; Supplier 5: Mouser; Supplier Part Number 5: 595-TPS7A1633DGNR; Eco-Plan: Green (RoHS & no Sb/Br); Vin(Max)(V): 60; Mounting Technology: Surface Mount; Code_JEDEC: MO-187; ComponentLink1Description: Manufacturer URL; ComponentLink1URL: http://www.ti.com/; ComponentLink2Description: Datasheet; ComponentLink2URL: http://www.ti.com/general/docs/lit/getliterature.tsp?genericPartNumber=TPS7A1633&fileType=pdf; ComponentLink3Description: Package Specification; ComponentLink3URL: http://www.ti.com/litv/pdf/mpds046e; ComponentLink4Description: URL Link1; ComponentLink4URL: Samples URL:http://www.ti.com/product/tps7a1633#samples
footprint TI-DGN8-1790X1470TP_N (SOIC, 8-Leads, Body 3x3mm, Pitch 0.65mm, Thermal Pad 1.79X1.47mm, IPC Medium Density)
footprint TI-DGN8-1790X1470TP_L (SOIC, 8-Leads, Body 3x3mm, Pitch 0.65mm, Thermal Pad 1.79X1.47mm, IPC High Density)
footprint TI-DGN8-1790X1470TP_M (SOIC, 8-Leads, Body 3x3mm, Pitch 0.65mm, Thermal Pad 1.79X1.47mm, IPC Low Density)
pins: 1 OUT (power) "Regulator output pin. A capacitor > 2.2 uF must be tied from this pin to ground to assure stability. It is recommended to connect a 10 uF ceramic capacitor from OUT to GND (as close to the device as possible) to maximize AC (See Datasheet)", 2 DNC "For the fixed voltage versions: DO NOT CONNECT to this pin. Do not route this pin to any electrical net, not even GND or IN.", 3 PG (hiz) "Power-good pin. Open collector output; leave open or connect to GND if the power-good function is not needed.", 4 GND (power) "Ground pin.", 5 EN (in) "Enable pin. This pin turns the regulator on or off.If VEN >= VEN_HI, the regulator is enabled. If VEN =< VEN_LO, the regulator is disabled. If not used, the EN pin can be connected to IN. Make sure that VEN =< VIN at all (See Datasheet)", 6 NC "This pin can be left open or tied to any voltage between GND and IN.", 7 DELAY (in) "Delay pin. Connect a capacitor to GND to adjust the PG delay time; leave open if the reset function is not needed.", 8 IN (power) "Regulator input supply pin. A capacitor > 0.1 uF must be tied from this pin to ground to assure stability. It is recommended to connect a 10 uF ceramic capacitor from IN to GND (as close to the device as possible) to reduce (See Datasheet)", 9 EP (power) "Solder to printed circuit board (PCB) to enhance thermal performance. Although it can be left floating, it is highly recommended to connect the PowerPAD to the GND plane."

## TPS7A1633DGNT
designator U?
Single Output LDO, 100 mA, Fixed 3.3 V Output, 3 to 60 V Input, with Enable and Power Good, 8-pin MSOP (DGN), -40 to 125 degC, Green (RoHS & no Sb/Br); Manufacturer: Texas Instruments; PartNumber: TPS7A1633DGNT; Accuracy(%): 2; Fixed Output Options(V): 3.3; Iout(Max)(A): 0.1; Iq(Typ)(mA): 0.004; Power Good: TRUE; Rating: Catalog; SubFamily: Single Channel LDO; Vdo(Typ)(mV): 60; Vin(Min)(V): 3; DatasheetVersion: SBVS171A; PackageVersion: 4073271/F; PackageReference: DGN8-1790X1470TP; PackageDescription: 8-pin Plastic Small Outline, Body 3 x 3 mm, Pitch 0.65 mm; Supplier 1: Digi-Key; Supplier Part Number 1: 296-30259-2-ND; Supplier 2: Digi-Key; Supplier Part Number 2: 296-30259-1-ND; Supplier 3: Digi-Key; Supplier Part Number 3: 296-30259-6-ND; Supplier 4: Farnell; Supplier Part Number 4: 2095836; Supplier 5: Newark; Supplier Part Number 5: 91T5125; Supplier 6: Newark; Supplier Part Number 6: 82T4255; Supplier 7: Mouser; Supplier Part Number 7: 595-TPS7A1633DGNT; Eco-Plan: Green (RoHS & no Sb/Br); Vin(Max)(V): 60; Mounting Technology: Surface Mount; Code_JEDEC: MO-187; ComponentLink1Description: Manufacturer URL; ComponentLink1URL: http://www.ti.com/; ComponentLink2Description: Datasheet; ComponentLink2URL: http://www.ti.com/general/docs/lit/getliterature.tsp?genericPartNumber=TPS7A1633&fileType=pdf; ComponentLink3Description: Package Specification; ComponentLink3URL: http://www.ti.com/litv/pdf/mpds046e; ComponentLink4Description: URL Link1; ComponentLink4URL: Samples URL:http://www.ti.com/product/tps7a1633#samples
footprint TI-DGN8-1790X1470TP_N (SOIC, 8-Leads, Body 3x3mm, Pitch 0.65mm, Thermal Pad 1.79X1.47mm, IPC Medium Density)
footprint TI-DGN8-1790X1470TP_L (SOIC, 8-Leads, Body 3x3mm, Pitch 0.65mm, Thermal Pad 1.79X1.47mm, IPC High Density)
footprint TI-DGN8-1790X1470TP_M (SOIC, 8-Leads, Body 3x3mm, Pitch 0.65mm, Thermal Pad 1.79X1.47mm, IPC Low Density)
pins: 1 OUT (power) "Regulator output pin. A capacitor > 2.2 uF must be tied from this pin to ground to assure stability. It is recommended to connect a 10 uF ceramic capacitor from OUT to GND (as close to the device as possible) to maximize AC (See Datasheet)", 2 DNC "For the fixed voltage versions: DO NOT CONNECT to this pin. Do not route this pin to any electrical net, not even GND or IN.", 3 PG (hiz) "Power-good pin. Open collector output; leave open or connect to GND if the power-good function is not needed.", 4 GND (power) "Ground pin.", 5 EN (in) "Enable pin. This pin turns the regulator on or off.If VEN >= VEN_HI, the regulator is enabled. If VEN =< VEN_LO, the regulator is disabled. If not used, the EN pin can be connected to IN. Make sure that VEN =< VIN at all (See Datasheet)", 6 NC "This pin can be left open or tied to any voltage between GND and IN.", 7 DELAY (in) "Delay pin. Connect a capacitor to GND to adjust the PG delay time; leave open if the reset function is not needed.", 8 IN (power) "Regulator input supply pin. A capacitor > 0.1 uF must be tied from this pin to ground to assure stability. It is recommended to connect a 10 uF ceramic capacitor from IN to GND (as close to the device as possible) to reduce (See Datasheet)", 9 EP (power) "Solder to printed circuit board (PCB) to enhance thermal performance. Although it can be left floating, it is highly recommended to connect the PowerPAD to the GND plane."

## TPS7A1650DGNR
designator U?
Single Output LDO, 100 mA, Fixed 5 V Output, 3 to 60 V Input, with Enable and Power Good, 8-pin MSOP (DGN), -40 to 125 degC, Green (RoHS & no Sb/Br); Manufacturer: Texas Instruments; PartNumber: TPS7A1650DGNR; Accuracy(%): 2; Fixed Output Options(V): 5; Iout(Max)(A): 0.1; Iq(Typ)(mA): 0.004; Power Good: TRUE; Rating: Catalog; SubFamily: Single Channel LDO; Vdo(Typ)(mV): 60; Vin(Min)(V): 3; DatasheetVersion: SBVS171A; PackageVersion: 4073271/F; PackageReference: DGN8-1790X1470TP; PackageDescription: 8-pin Plastic Small Outline, Body 3 x 3 mm, Pitch 0.65 mm; Supplier 1: Digi-Key; Supplier Part Number 1: 296-30220-2-ND; Supplier 2: Digi-Key; Supplier Part Number 2: 296-30220-1-ND; Supplier 3: Digi-Key; Supplier Part Number 3: 296-30220-6-ND; Supplier 4: Farnell; Supplier Part Number 4: 2095837; Supplier 5: Newark; Supplier Part Number 5: 91T5126; Supplier 6: Mouser; Supplier Part Number 6: 595-TPS7A1650DGNR; Eco-Plan: Green (RoHS & no Sb/Br); Vin(Max)(V): 60; Vout Adj(Max)(V): 5; Mounting Technology: Surface Mount; Code_JEDEC: MO-187; ComponentLink1Description: Manufacturer URL; ComponentLink1URL: http://www.ti.com/; ComponentLink2Description: Datasheet; ComponentLink2URL: http://www.ti.com/general/docs/lit/getliterature.tsp?genericPartNumber=TPS7A1650&fileType=pdf; ComponentLink3Description: Package Specification; ComponentLink3URL: http://www.ti.com/litv/pdf/mpds046e; ComponentLink4Description: URL Link1; ComponentLink4URL: Samples URL:http://www.ti.com/product/tps7a1650#samples
footprint TI-DGN8-1790X1470TP_N (SOIC, 8-Leads, Body 3x3mm, Pitch 0.65mm, Thermal Pad 1.79X1.47mm, IPC Medium Density)
footprint TI-DGN8-1790X1470TP_L (SOIC, 8-Leads, Body 3x3mm, Pitch 0.65mm, Thermal Pad 1.79X1.47mm, IPC High Density)
footprint TI-DGN8-1790X1470TP_M (SOIC, 8-Leads, Body 3x3mm, Pitch 0.65mm, Thermal Pad 1.79X1.47mm, IPC Low Density)
pins: 1 OUT (power) "Regulator output pin. A capacitor > 2.2 uF must be tied from this pin to ground to assure stability. It is recommended to connect a 10 uF ceramic capacitor from OUT to GND (as close to the device as possible) to maximize AC (See Datasheet)", 2 DNC "For the fixed voltage versions: DO NOT CONNECT to this pin. Do not route this pin to any electrical net, not even GND or IN.", 3 PG (hiz) "Power-good pin. Open collector output; leave open or connect to GND if the power-good function is not needed.", 4 GND (power) "Ground pin.", 5 EN (in) "Enable pin. This pin turns the regulator on or off.If VEN >= VEN_HI, the regulator is enabled. If VEN =< VEN_LO, the regulator is disabled. If not used, the EN pin can be connected to IN. Make sure that VEN =< VIN at all (See Datasheet)", 6 NC "This pin can be left open or tied to any voltage between GND and IN.", 7 DELAY (in) "Delay pin. Connect a capacitor to GND to adjust the PG delay time; leave open if the reset function is not needed.", 8 IN (power) "Regulator input supply pin. A capacitor > 0.1 uF must be tied from this pin to ground to assure stability. It is recommended to connect a 10 uF ceramic capacitor from IN to GND (as close to the device as possible) to reduce (See Datasheet)", 9 EP (power) "Solder to printed circuit board (PCB) to enhance thermal performance. Although it can be left floating, it is highly recommended to connect the PowerPAD to the GND plane."

## TPS7A3001DGNR
designator U?
Single Output High PSRR LDO, 200 mA, Adjustable -1.18 to -33 V Output, -3 to -36 V Input, with Ultra-Low Noise, 8-pin MSOP (DGN), -40 to 125 degC, Green (RoHS & no Sb/Br); Manufacturer: Texas Instruments; PartNumber: TPS7A3001DGNR; Accuracy(%): 1.5; Iout(Max)(A): 0.2; Iq(Typ)(mA): 0.05; SubFamily: Single Channel LDO; Vdo(Typ)(mV): 216; DatasheetVersion: SBVS125A; PackageVersion: 4073271/F; PackageReference: DGN8-1760X1425TP; PackageDescription: 8-pin Plastic Small Outline, Body 3 x 3 mm, Pitch 0.65 mm; Supplier 1: Digi-Key; Supplier Part Number 1: 296-27750-2-ND; Supplier 2: Digi-Key; Supplier Part Number 2: 296-27750-1-ND; Supplier 3: Digi-Key; Supplier Part Number 3: 296-27750-6-ND; Supplier 4: Newark; Supplier Part Number 4: 01T0878; Supplier 5: Mouser; Supplier Part Number 5: 595-TPS7A3001DGNR; Eco-Plan: Green (RoHS & no Sb/Br); Vin(Max)(V): -36; Vin(Min)(V): -3; Vout Adj(Max)(V): -33; Vout Adj(Min)(V): -1.18; Mounting Technology: Surface Mount; Code_JEDEC: MO-187; ComponentLink1Description: Manufacturer URL; ComponentLink1URL: http://www.ti.com/; ComponentLink2Description: Datasheet; ComponentLink2URL: http://www.ti.com/general/docs/lit/getliterature.tsp?genericPartNumber=TPS7A3001&fileType=pdf; ComponentLink3Description: Package Specification; ComponentLink3URL: http://www.ti.com/litv/pdf/mpds046e
footprint TI-DGN8-1760X1425TP_N (SOIC, 8-Leads, Body 3x3mm, Pitch 0.65mm, Thermal Pad 1.76x1.425mm, IPC Medium Density)
footprint TI-DGN8-1760X1425TP_L (SOIC, 8-Leads, Body 3x3mm, Pitch 0.65mm, Thermal Pad 1.76x1.425mm, IPC High Density)
footprint TI-DGN8-1760X1425TP_M (SOIC, 8-Leads, Body 3x3mm, Pitch 0.65mm, Thermal Pad 1.76x1.425mm, IPC Low Density)
pins: 1 OUT (power) "Regulator output. A capacitor>=2.2 uF must be tied from this pin to ground to assure stability.", 2 FB (in) "This pin is the input to the control-loop error amplifier. It is used to set the output voltage of the device.", 3 NC "Not internally connected. This pin must either be left open or tied to GND.", 4 GND (power) "Ground", 5 EN (in) "This pin turns the regulator on or off. If VEN>= V+EN_HI or VEN=< V-EN_HI, the regulator is enabled. If V+EN_LO>=VEN>= V-EN_LO, the regulator is disabled. The EN pin can be connected to IN, if not used. |VEN|=< |VIN|.", 6 NR/SS "Noise reduction pin. Connecting an external capacitor to this pin bypasses noise generated by the internal bandgap. This capacitor allows RMS noise to be reduced to very low levels and also controls the soft-start function.", 7 DNC "DO NOT CONNECT. Do not route this pin to any electrical net, not even GND or IN.", 8 IN (power) "Input supply", 9 EP "Must either be left open or tied to GND. Solder to printed circuit board (PCB) plane to enhance thermal performance"

## TPS7A3001DGNT
designator U?
Single Output High PSRR LDO, 200 mA, Adjustable -1.18 to -33 V Output, -3 to -36 V Input, with Ultra-Low Noise, 8-pin MSOP (DGN), -40 to 125 degC, Green (RoHS & no Sb/Br); Manufacturer: Texas Instruments; PartNumber: TPS7A3001DGNT; Accuracy(%): 1.5; Iout(Max)(A): 0.2; Iq(Typ)(mA): 0.05; SubFamily: Single Channel LDO; Vdo(Typ)(mV): 216; DatasheetVersion: SBVS125A; PackageVersion: 4073271/F; PackageReference: DGN8-1760X1425TP; PackageDescription: 8-pin Plastic Small Outline, Body 3 x 3 mm, Pitch 0.65 mm; Supplier 1: Digi-Key; Supplier Part Number 1: 296-27744-2-ND; Supplier 2: Digi-Key; Supplier Part Number 2: 296-27744-1-ND; Supplier 3: Digi-Key; Supplier Part Number 3: 296-27744-6-ND; Supplier 4: Farnell; Supplier Part Number 4: 1855138; Supplier 5: Farnell; Supplier Part Number 5: 1855138RL; Supplier 6: Newark; Supplier Part Number 6: 86R9813; Supplier 7: Mouser; Supplier Part Number 7: 595-TPS7A3001DGNT; Eco-Plan: Green (RoHS & no Sb/Br); Vin(Max)(V): -36; Vin(Min)(V): -3; Vout Adj(Max)(V): -33; Vout Adj(Min)(V): -1.18; Mounting Technology: Surface Mount; Code_JEDEC: MO-187; ComponentLink1Description: Manufacturer URL; ComponentLink1URL: http://www.ti.com/; ComponentLink2Description: Datasheet; ComponentLink2URL: http://www.ti.com/general/docs/lit/getliterature.tsp?genericPartNumber=TPS7A3001&fileType=pdf; ComponentLink3Description: Package Specification; ComponentLink3URL: http://www.ti.com/litv/pdf/mpds046e
footprint TI-DGN8-1760X1425TP_N (SOIC, 8-Leads, Body 3x3mm, Pitch 0.65mm, Thermal Pad 1.76x1.425mm, IPC Medium Density)
footprint TI-DGN8-1760X1425TP_L (SOIC, 8-Leads, Body 3x3mm, Pitch 0.65mm, Thermal Pad 1.76x1.425mm, IPC High Density)
footprint TI-DGN8-1760X1425TP_M (SOIC, 8-Leads, Body 3x3mm, Pitch 0.65mm, Thermal Pad 1.76x1.425mm, IPC Low Density)
pins: 1 OUT (power) "Regulator output. A capacitor>=2.2 uF must be tied from this pin to ground to assure stability.", 2 FB (in) "This pin is the input to the control-loop error amplifier. It is used to set the output voltage of the device.", 3 NC "Not internally connected. This pin must either be left open or tied to GND.", 4 GND (power) "Ground", 5 EN (in) "This pin turns the regulator on or off. If VEN>= V+EN_HI or VEN=< V-EN_HI, the regulator is enabled. If V+EN_LO>=VEN>= V-EN_LO, the regulator is disabled. The EN pin can be connected to IN, if not used. |VEN|=< |VIN|.", 6 NR/SS "Noise reduction pin. Connecting an external capacitor to this pin bypasses noise generated by the internal bandgap. This capacitor allows RMS noise to be reduced to very low levels and also controls the soft-start function.", 7 DNC "DO NOT CONNECT. Do not route this pin to any electrical net, not even GND or IN.", 8 IN (power) "Input supply", 9 EP "Must either be left open or tied to GND. Solder to printed circuit board (PCB) plane to enhance thermal performance"

## TPS7A3001MDGNTEP
designator U?
Single Output High PSRR LDO, 200 mA, Adjustable -1.18 to -33 V Output, -3 to -36 V Input, with Ultra-Low Noise, 8-pin MSOP (DGN), -55 to 125 degC, Green (RoHS & no Sb/Br); Manufacturer: Texas Instruments; PartNumber: TPS7A3001MDGNTEP; Accuracy(%): 1.5; Iout(Max)(A): 0.2; Iq(Typ)(mA): 0.05; SubFamily: Single Channel LDO; Vdo(Typ)(mV): 216; DatasheetVersion: SBVS174; PackageVersion: 4073271/F; PackageReference: DGN8-1760X1425TP; PackageDescription: 8-pin Plastic Small Outline, Body 3 x 3 mm, Pitch 0.65 mm; Supplier 1: Digi-Key; Supplier Part Number 1: 296-29768-2-ND; Supplier 2: Digi-Key; Supplier Part Number 2: 296-29768-1-ND; Supplier 3: Digi-Key; Supplier Part Number 3: 296-29768-6-ND; Supplier 4: Newark; Supplier Part Number 4: 71T5478; Supplier 5: Mouser; Supplier Part Number 5: 595-TPS7A3001MDGNTEP; Eco-Plan: Green (RoHS & no Sb/Br); Vin(Max)(V): -36; Vin(Min)(V): -3; Vout Adj(Max)(V): -33; Vout Adj(Min)(V): -1.18; Mounting Technology: Surface Mount; Code_JEDEC: MO-187; ComponentLink1Description: Manufacturer URL; ComponentLink1URL: http://www.ti.com/; ComponentLink2Description: Datasheet; ComponentLink2URL: http://www.ti.com/general/docs/lit/getliterature.tsp?genericPartNumber=TPS7A3001-EP&fileType=pdf; ComponentLink3Description: Package Specification; ComponentLink3URL: http://www.ti.com/litv/pdf/mpds046e
footprint TI-DGN8-1760X1425TP_N (SOIC, 8-Leads, Body 3x3mm, Pitch 0.65mm, Thermal Pad 1.76x1.425mm, IPC Medium Density)
footprint TI-DGN8-1760X1425TP_L (SOIC, 8-Leads, Body 3x3mm, Pitch 0.65mm, Thermal Pad 1.76x1.425mm, IPC High Density)
footprint TI-DGN8-1760X1425TP_M (SOIC, 8-Leads, Body 3x3mm, Pitch 0.65mm, Thermal Pad 1.76x1.425mm, IPC Low Density)
pins: 1 OUT (power) "Regulator output. A capacitor >= 2.2uF must be tied from this pin to ground to assure stability.", 2 FB (in) "This pin is the input to the control-loop error amplifier. It is used to set the output voltage of the device", 3 NC "Not internally connected. This pin must either be left open or tied to GND.", 4 GND (power) "Ground", 5 EN (in), 6 NR/SS "Noise reduction pin. Connecting an external capacitor to this pin bypasses noise generated by the internal bandgap. This capacitor allows RMS noise to be reduced to very low levels and also controls the soft-start function.", 7 DNC "DO NOT CONNECT. Do not route this pin to any electrical net, not even GND or IN.", 8 IN (power) "Input supply", 9 EP (power) "Must either be left open or tied to GND. Solder to printed circuit board (PCB) plane to enhance thermal performance."